# EAGLE library part OPTOISOLATOR (library Ai_DiscreteSemis)
Description: Dual gate opto isolator. Vishay part : ILD213T
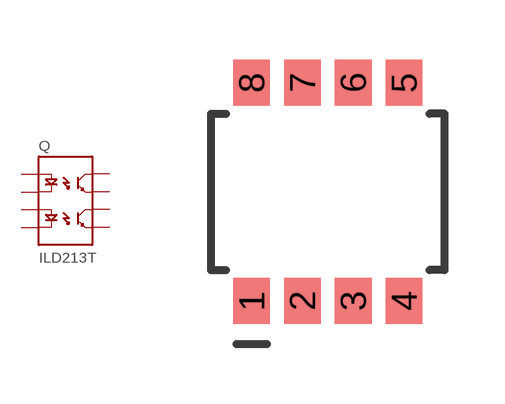
[diagram p0: symbol with the pads of SO08-2; footprint SO08-2]

Designator prefix Q

## OPTOISOLATOR (PROD_ID: IC-09076)  [SO08-2]
1  A1
2  C1
3  A2
4  C2
5  EM2
6  CL2
7  EM1
8  CL1

## Footprint SO08-2 (pad centres in mm)
smd 0.914 x 1.143: 1 -1.905,-2.731; 2 -0.635,-2.731; 3 0.635,-2.731; 4 1.905,-2.731; 5 1.905,2.731; 6 0.635,2.731; 7 -0.635,2.731; 8 -1.905,2.731